# Altium footprint library ADAMTECH_PH1RB-08-UA.PcbLib: 1 footprints
Each footprint in its own frame and in the unit in brackets; x right, y up, seen from the top. Pads: shape width x height; smd on the part's side, far side on the other; paste and mask are expansions set on the pad; w line width, h text height; cw(c..) or ccw(c..) is an arc to the next point about the centre after c.
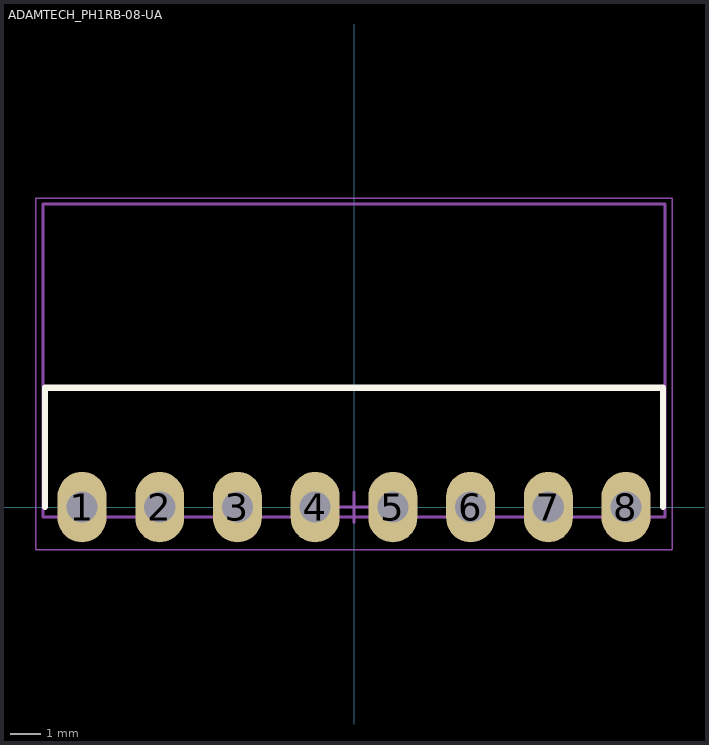
[diagram p0: the footprint, top view; thin cyan lines are the x and y axes]

## ADAMTECH_PH1RB-08-UA [mm] "ADAMTECH_PH1RB-08-UA"
height 0.55
pads (8):
  oval 1.6x2.3 hole 1.02 mask+0.05: 1(-8.89,0) 2(-6.35,0) 3(-3.81,0) 4(-1.27,0) 5(1.27,0) 6(3.81,0) 7(6.35,0) 8(8.89,0)
Top Overlay:
  lines w0.2: -10.1,0 -10.1,3.9 10.1,3.9 10.1,0
Mechanical 13:
  lines w0.1: -10.16,3.9 10.16,3.9 ; -10.16,3.9 -10.16,-0.32 10.16,-0.32 10.16,3.9 ; -10.16,3.9 -10.16,9.9 10.16,9.9 10.16,3.9
Mechanical 15:
  lines w0.05: -10.4,-1.4 10.4,-1.4 10.4,10.1 -10.4,10.1 -10.4,-1.4
  lines w0.1: -0.5,0 0.5,0 ; 0,-0.5 0,0.5
3D body "ADAMTECH_PH1RB-08-UA.STEP": height 2.55, standoff -3, extent -10.164,-0.32 10.164,9.9